# Altium footprint library PCB - LEADLESS - DFN - ANALOG DFN-12 05-08-1791.PcbLib: 1 footprints
Each footprint in its own frame and in the unit in brackets; x right, y up, seen from the top. Pads: shape width x height; smd on the part's side, far side on the other; paste and mask are expansions set on the pad; w line width, h text height; cw(c..) or ccw(c..) is an arc to the next point about the centre after c.
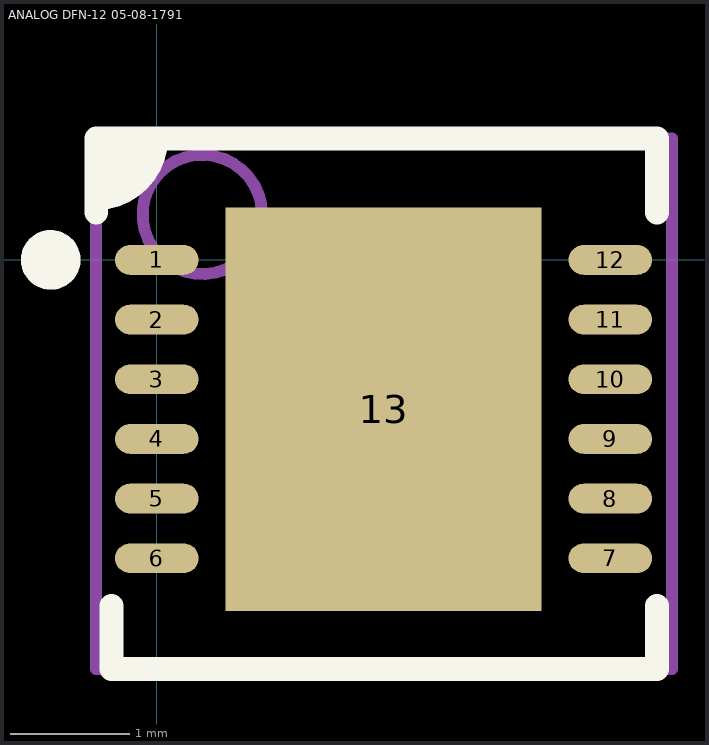
[diagram p0: the footprint, top view; thin cyan lines are the x and y axes]

## ANALOG DFN-12 05-08-1791 [mm] "DFN, 12-Leads, Body 4.00x4.00mm, Pitch 0.50mm, Thermal Pad 2.65x3.38mm, IPC Medium Density"
height 0.8
pads (13):
  oval 0.7x0.25 smd: 1(0,0) 2(0,-0.5) 3(0,-1) 4(0,-1.5) 5(0,-2) 6(0,-2.5) 7(3.8,-2.5) 8(3.8,-2) 9(3.8,-1.5) 10(3.8,-1) 11(3.8,-0.5) 12(3.8,0)
  rect 2.65x3.38 smd: 13(1.9,-1.25)
Top Overlay:
  circle w0.25: c-0.889,0 r0.125
  region: -0.549,1.057 -0.508,1.016 -0.041,1.016 -0.041,0.762 -0.286,0.517 -0.549,0.517
  lines w0.2: -0.508,0.398 -0.508,1.016 4.191,1.016 4.191,0.398 ; -0.508,0.517 ccw(c-0.508,1.017) -0.008,1.017 ; -0.381,-2.898 -0.381,-3.429 4.191,-3.429 4.191,-2.898
Top Assembly:
  circle w0.1: c0.381,0.381 r0.5
  lines w0.1: -0.508,-3.429 4.318,-3.429 4.318,1.016 -0.508,1.016 -0.508,-3.429
Top Courtyard:
  lines w0.05: -0.525,-3.429 4.318,-3.429 4.318,1.036 -0.525,1.036 -0.525,-3.429
  lines w0.1: 0.95,-1.25 1.95,-1.25 ; 1.45,-1.75 1.45,-0.75
3D body "05-08-1791_ADI.step": height 0.81, standoff 0, extent -0.145,-3.295 3.945,0.795